# EAGLE library part GSD090012SEU (library SamacSys_Parts)
Memory Card Connectors SD CARD CONNECTOR 9 POS, SMT Source: Datasheet <https://cdn.amphenol-icc.com/media/wysiwyg/files/drawing/gsd09001xseu.pdf>
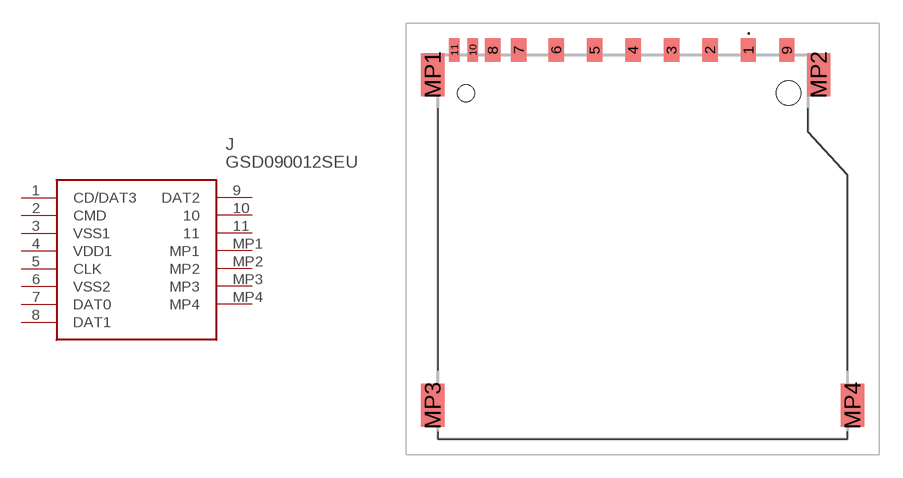
[diagram p4: symbol with the pads of GSD090012SEU; footprint GSD090012SEU]

Designator prefix J

## GSD090012SEU (DESCRIPTION: Memory Card Connectors SD CARD CONNECTOR 9 POS, SMT; HEIGHT: 3.15mm; MANUFACTURER_NAME: Amphenol; MANUFACTURER_PART_NUMBER: GSD090012SEU; MOUSER_PART_NUMBER: 523-GSD090012SEU; MOUSER_PRICE-STOCK: https://www.mouser.co.uk/ProductDetail/Amphenol-Commercial-Products/GSD090012SEU?qs=tRxQeHRxj%252BXvWoySYux1gA%3D%3D)  [GSD090012SEU]
1  CD/DAT3
2  CMD
3  VSS1
4  VDD1
5  CLK
6  VSS2
7  DAT0
8  DAT1
9  DAT2
10  10
11  11
MP1  MP1
MP2  MP2
MP3  MP3
MP4  MP4

## Footprint GSD090012SEU (pad centres in mm)
GSD090012SEU-2
smd 1 x 1.5: 1 6.875,12.275; 2 4.375,12.275; 3 1.875,12.275; 4 -0.625,12.275; 5 -3.125,12.275; 6 -5.625,12.275; 7 -8.05,12.275; 8 -9.75,12.275; 9 9.375,12.275
smd 0.7 x 1.5: 10 -11.05,12.275; 11 -12.25,12.275
smd 1.5 x 2.8: MP1 -13.65,10.675; MP2 11.451,10.675; MP3 -13.65,-10.825; MP4 13.65,-10.825
hole 1.1 at -11.499,9.475
hole 1.6 at 9.501,9.475